# EAGLE library part MC68882 (library F030NG)
FPU / MC68882
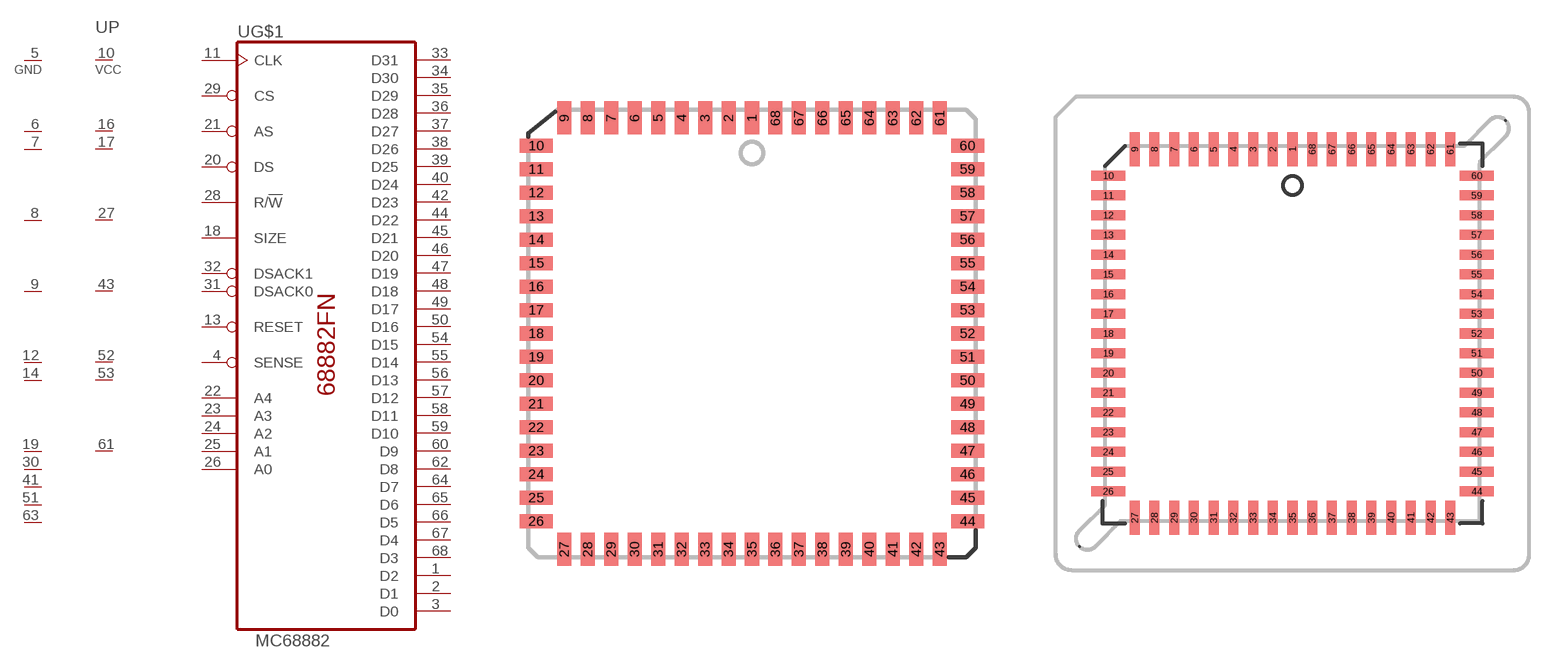
[diagram p25: symbol with the pads of PLCC68; footprints PLCC68, PLCC68S]

Designator prefix U; gates G$1=68881 P=8VCC_12GND

## MC68882-PLCC68 (OC_FARNELL: unknown; OC_NEWARK: unknown)  [PLCC68]
1  G$1:D2
2  G$1:D1
3  G$1:D0
4  G$1:SENSE
5  P:GND  pwr
6  P:GND  pwr
7  P:GND  pwr
8  P:GND  pwr
9  P:GND  pwr
10  P:VCC  pwr
11  G$1:CLK  in
12  P:GND  pwr
13  G$1:RESET  in
14  P:GND  pwr
16  P:VCC  pwr
17  P:VCC  pwr
18  G$1:SIZE  in
19  P:GND  pwr
20  G$1:DS  in
21  G$1:AS  in
22  G$1:A4  in
23  G$1:A3  in
24  G$1:A2  in
25  G$1:A1  in
26  G$1:A0  in
27  P:VCC  pwr
28  G$1:R/!W  in
29  G$1:CS  in
30  P:GND  pwr
31  G$1:DSACK0  out
32  G$1:DSACK1  out
33  G$1:D31
34  G$1:D30
35  G$1:D29
36  G$1:D28
37  G$1:D27
38  G$1:D26
39  G$1:D25
40  G$1:D24
41  P:GND  pwr
42  G$1:D23
43  P:VCC  pwr
44  G$1:D22
45  G$1:D21
46  G$1:D20
47  G$1:D19
48  G$1:D18
49  G$1:D17
50  G$1:D16
51  P:GND  pwr
52  P:VCC  pwr
53  P:VCC  pwr
54  G$1:D15
55  G$1:D14
56  G$1:D13
57  G$1:D12
58  G$1:D11
59  G$1:D10
60  G$1:D9
61  P:VCC  pwr
62  G$1:D8
63  P:GND  pwr
64  G$1:D7
65  G$1:D6
66  G$1:D5
67  G$1:D4
68  G$1:D3

## MC68882-PLCC68S  [PLCC68S]
Pads as for PLCC68

## Footprint PLCC68 (pad centres in mm)
PLASTIC LEADED CHIP CARRIER square
smd 0.76 x 1.8: 1 0,11.67; 2 -1.27,11.67; 3 -2.54,11.67; 4 -3.81,11.67; 5 -5.08,11.67; 6 -6.35,11.67; 7 -7.62,11.67; 8 -8.89,11.67; 9 -10.16,11.67; 27 -10.16,-11.67; 28 -8.89,-11.67; 29 -7.62,-11.67; 30 -6.35,-11.67; 31 -5.08,-11.67; 32 -3.81,-11.67; 33 -2.54,-11.67; 34 -1.27,-11.67; 35 0,-11.67; 36 1.27,-11.67; 37 2.54,-11.67; 38 3.81,-11.67; 39 5.08,-11.67; 40 6.35,-11.67; 41 7.62,-11.67; 42 8.89,-11.67; 43 10.16,-11.67; 61 10.16,11.67; 62 8.89,11.67; 63 7.62,11.67; 64 6.35,11.67; 65 5.08,11.67; 66 3.81,11.67; 67 2.54,11.67; 68 1.27,11.67
smd 1.8 x 0.76: 10 -11.67,10.16; 11 -11.67,8.89; 12 -11.67,7.62; 13 -11.67,6.35; 14 -11.67,5.08; 15 -11.67,3.81; 16 -11.67,2.54; 17 -11.67,1.27; 18 -11.67,0; 19 -11.67,-1.27; 20 -11.67,-2.54; 21 -11.67,-3.81; 22 -11.67,-5.08; 23 -11.67,-6.35; 24 -11.67,-7.62; 25 -11.67,-8.89; 26 -11.67,-10.16; 44 11.67,-10.16; 45 11.67,-8.89; 46 11.67,-7.62; 47 11.67,-6.35; 48 11.67,-5.08; 49 11.67,-3.81; 50 11.67,-2.54; 51 11.67,-1.27; 52 11.67,0; 53 11.67,1.27; 54 11.67,2.54; 55 11.67,3.81; 56 11.67,5.08; 57 11.67,6.35; 58 11.67,7.62; 59 11.67,8.89; 60 11.67,10.16

## Footprint PLCC68S (pad centres in mm)
PLCC-68 SMT-TT Source: http://www.3m.com/interconnects * Drawing: TS-1069-01
smd 0.65 x 2.2: 1 0,11.865; 2 -1.27,11.865; 3 -2.54,11.865; 4 -3.81,11.865; 5 -5.08,11.865; 6 -6.35,11.865; 7 -7.62,11.865; 8 -8.89,11.865; 9 -10.16,11.865; 27 -10.16,-11.865; 28 -8.89,-11.865; 29 -7.62,-11.865; 30 -6.35,-11.865; 31 -5.08,-11.865; 32 -3.81,-11.865; 33 -2.54,-11.865; 34 -1.27,-11.865; 35 0,-11.865; 36 1.27,-11.865; 37 2.54,-11.865; 38 3.81,-11.865; 39 5.08,-11.865; 40 6.35,-11.865; 41 7.62,-11.865; 42 8.89,-11.865; 43 10.16,-11.865; 61 10.16,11.865; 62 8.89,11.865; 63 7.62,11.865; 64 6.35,11.865; 65 5.08,11.865; 66 3.81,11.865; 67 2.54,11.865; 68 1.27,11.865
smd 2.2 x 0.65: 10 -11.865,10.16; 11 -11.865,8.89; 12 -11.865,7.62; 13 -11.865,6.35; 14 -11.865,5.08; 15 -11.865,3.81; 16 -11.865,2.54; 17 -11.865,1.27; 18 -11.865,0; 19 -11.865,-1.27; 20 -11.865,-2.54; 21 -11.865,-3.81; 22 -11.865,-5.08; 23 -11.865,-6.35; 24 -11.865,-7.62; 25 -11.865,-8.89; 26 -11.865,-10.16; 44 11.865,-10.16; 45 11.865,-8.89; 46 11.865,-7.62; 47 11.865,-6.35; 48 11.865,-5.08; 49 11.865,-3.81; 50 11.865,-2.54; 51 11.865,-1.27; 52 11.865,0; 53 11.865,1.27; 54 11.865,2.54; 55 11.865,3.81; 56 11.865,5.08; 57 11.865,6.35; 58 11.865,7.62; 59 11.865,8.89; 60 11.865,10.16